# EAGLE library part CS5484 (library smartplug)
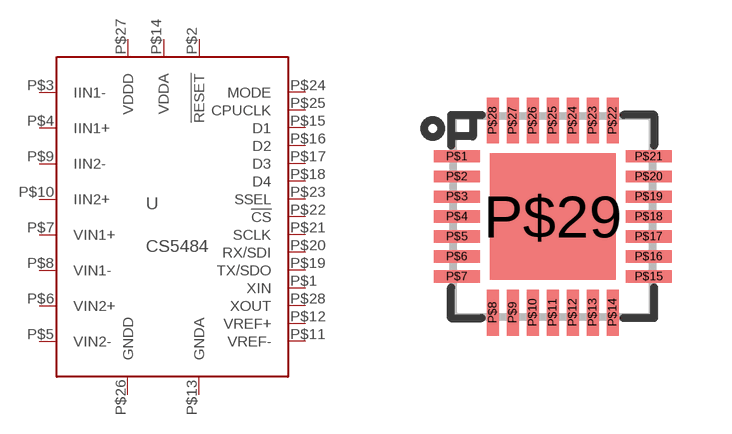
[diagram p6: symbol with the pads of QFN28-5X5; footprint QFN28-5X5]

Designator prefix -

## CS5484  [QFN28-5X5]
P$1  XIN  in
P$2  !RESET  in
P$3  IIN1-  in
P$4  IIN1+  in
P$5  VIN2-  in
P$6  VIN2+  in
P$7  VIN1+  in
P$8  VIN1-  in
P$9  IIN2-  in
P$10  IIN2+  in
P$11  VREF-  in
P$12  VREF+  out
P$13  GNDA  pwr
P$14  VDDA  in
P$15  D1  out
P$16  D2  out
P$17  D3  out
P$18  D4  out
P$19  TX/SDO  out
P$20  RX/SDI  in
P$21  SCLK  out
P$22  !CS  out
P$23  SSEL  out
P$24  MODE  in
P$25  CPUCLK  out
P$26  GNDD
P$27  VDDD  pwr
P$28  XOUT  out

## Footprint QFN28-5X5 (pad centres in mm)
smd 1.15 x 0.3: P$1 -2.4,1.5; P$2 -2.4,1; P$3 -2.4,0.5; P$4 -2.4,0; P$5 -2.4,-0.5; P$6 -2.4,-1; P$7 -2.4,-1.5; P$15 2.4,-1.5; P$16 2.4,-1; P$17 2.4,-0.5; P$18 2.4,0; P$19 2.4,0.5; P$20 2.4,1; P$21 2.4,1.5
smd 0.3 x 1.15: P$8 -1.5,-2.4; P$9 -1,-2.4; P$10 -0.5,-2.4; P$11 0,-2.4; P$12 0.5,-2.4; P$13 1,-2.4; P$14 1.5,-2.4; P$22 1.5,2.4; P$23 1,2.4; P$24 0.5,2.4; P$25 0,2.4; P$26 -0.5,2.4; P$27 -1,2.4; P$28 -1.5,2.4
smd 3.15 x 3.15: P$29 0,0